# Altium schematic symbol library INA199A1_SC (1).SchLib: 1 symbol
Pins are listed as number, name and electrical type; pins without a type are passive.

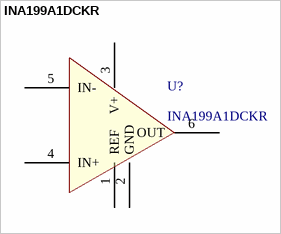
[diagram p0: symbol INA199A1DCKR]

## INA199A1DCKR
designator U?
INA199A1DCKR Current Sense
pins: 1 REF, 2 GND, 3 V+, 4 IN+, 5 IN-, 6 OUT